# Altium footprint library USB_micro_VTN.PcbLib: 1 footprints
Each footprint in its own frame and in the unit in brackets; x right, y up, seen from the top. Pads: shape width x height; smd on the part's side, far side on the other; paste and mask are expansions set on the pad; w line width, h text height; cw(c..) or ccw(c..) is an arc to the next point about the centre after c.
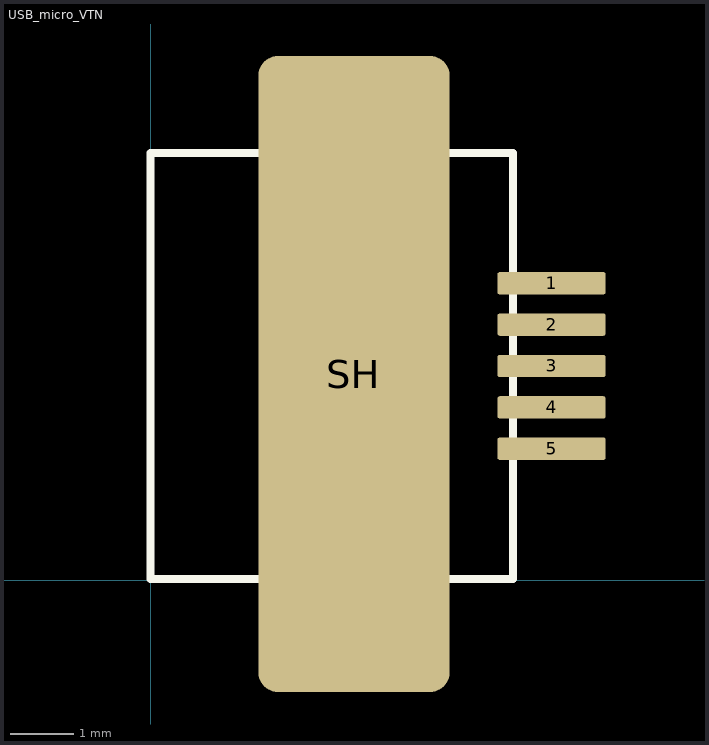
[diagram p0: the footprint, top view; thin cyan lines are the x and y axes]

## USB_micro_VTN [mm]
pads (6):
  rrect20% 1.7x0.35 smd: 1(6.3,4.669) 2(6.3,4.019) 3(6.3,3.369) 4(6.3,2.719) 5(6.3,2.069)
  rrect20% 3x10 smd: SH(3.196,3.243)
Top Overlay:
  lines w0.127: -0.001,0.019 0,6.719 5.696,6.719 5.696,0.019 0,0.019
Top Solder:
  rectangle: 5.326,1.464 7.296,5.274